# EAGLE library part CLOCK_ADAPTER (library mynixies)
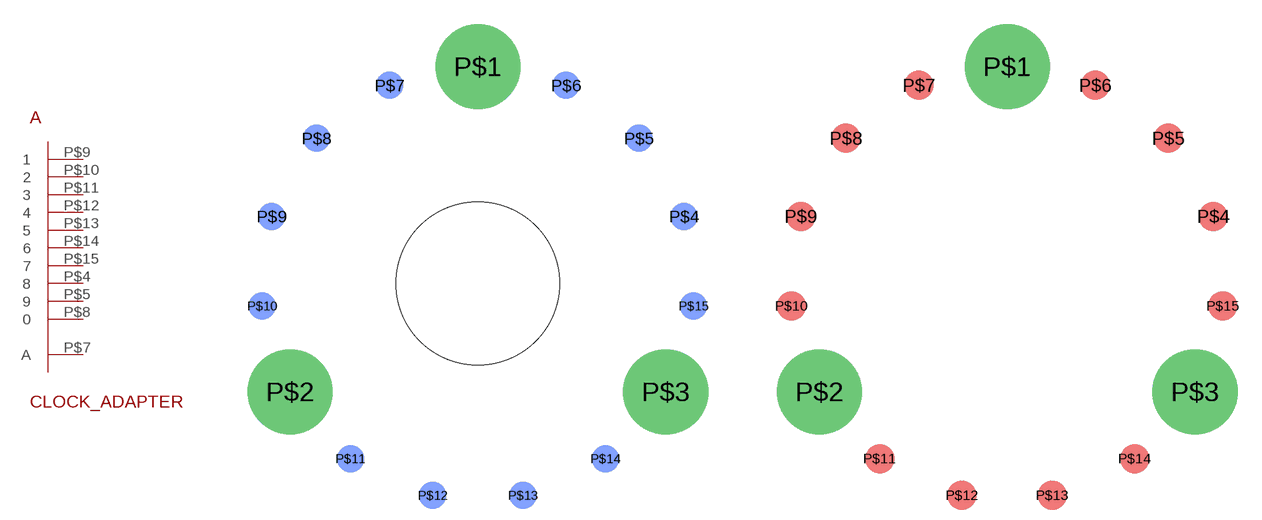
[diagram p24: symbol with the pads of ADAPTER_TUBE; footprints ADAPTER_TUBE, ADAPTER_CLOCK]

Designator prefix A

## CLOCK_ADAPTERTUBE  [ADAPTER_TUBE]
P$4  8  pas
P$5  9  pas
P$7  A  pas
P$8  0  pas
P$9  1  pas
P$10  2  pas
P$11  3  pas
P$12  4  pas
P$13  5  pas
P$14  6  pas
P$15  7  pas

## CLOCK_ADAPTERCLOCK  [ADAPTER_CLOCK]
Pads as for ADAPTER_TUBE

## Footprint ADAPTER_TUBE (pad centres in mm)
drill 2.2 pad 5.3: P$1 0,13.5; P$2 -11.691,-6.75; P$3 11.691,-6.75
smd 1.7 x 1.7 bottom: P$4 12.839,4.172; P$5 10.032,9.033; P$6 5.491,12.333; P$7 -5.491,12.333; P$8 -10.032,9.033; P$9 -12.839,4.172; P$10 -13.426,-1.411; P$11 -7.935,-10.922; P$12 -2.807,-13.205; P$13 2.807,-13.205; P$14 7.935,-10.922; P$15 13.426,-1.411
hole 10.16 at 0,0

## Footprint ADAPTER_CLOCK (pad centres in mm)
drill 3 pad 5.3: P$1 0,13.5; P$2 -11.691,-6.75; P$3 11.691,-6.75
smd 1.829 x 1.829: P$4 12.839,4.172; P$5 10.032,9.033; P$6 5.491,12.333; P$7 -5.491,12.333; P$8 -10.032,9.033; P$9 -12.839,4.172; P$10 -13.426,-1.411; P$11 -7.935,-10.922; P$12 -2.807,-13.205; P$13 2.807,-13.205; P$14 7.935,-10.922; P$15 13.426,-1.411